# Altium footprint library SOT1118.PcbLib: 1 footprints
Each footprint in its own frame and in the unit in brackets; x right, y up, seen from the top. Pads: shape width x height; smd on the part's side, far side on the other; paste and mask are expansions set on the pad; w line width, h text height; cw(c..) or ccw(c..) is an arc to the next point about the centre after c.
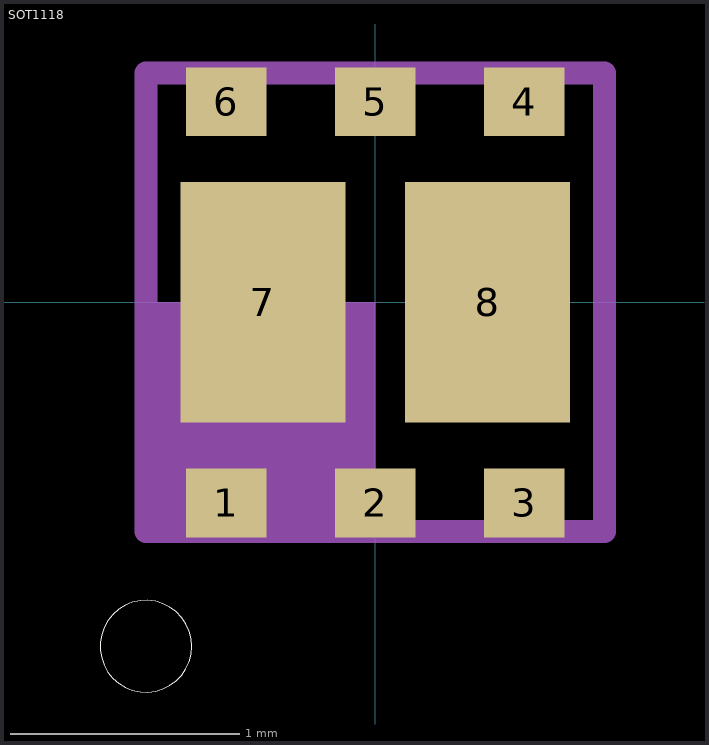
[diagram p0: the footprint, top view; thin cyan lines are the x and y axes]

## SOT1118 [mm]
pads (8):
  rect 0.35x0.3 smd mask+0: 1(-0.65,-0.875) 2(0,-0.875) 3(0.65,-0.875) 4(0.65,0.875) 5(0,0.875) 6(-0.65,0.875)
  rect 0.72x1.05 smd mask+0: 7(-0.49,0) 8(0.49,0)
Top Overlay:
  circle w0: c-1,-1.5 r0.2
Top Solder:
  region: -0.425,0.676 -0.876,0.676 -0.876,1.075 -0.425,1.075
  region: 0.875,0.675 0.425,0.675 0.425,1.075 0.875,1.075
  region: 0.225,0.676 -0.225,0.676 -0.225,1.075 0.225,1.075
  region: -0.425,-1.076 -0.876,-1.076 -0.876,-0.675 -0.425,-0.675
  region: 0.875,-1.076 0.425,-1.076 0.425,-0.675 0.875,-0.675
  region: 0.225,-1.076 -0.225,-1.076 -0.225,-0.675 0.225,-0.675
  region: 0.9,-0.575 0.08,-0.575 0.08,0.575 0.9,0.575
  region: -0.08,-0.576 -0.901,-0.576 -0.901,0.575 -0.08,0.575
Mechanical 13:
  region: 0,-1.001 -1.001,-1.001 -1.001,0 0,0
  lines w0.1: -1,-1 -1,1 1,1 1,-1 -1,-1
3D body: height 0.38, standoff 0, extent -1,-1 1,1